# EAGLE library part IMS-T805A (library Transputers)
T805 transputer style-A INMOS 32-bit Transputer with four communication links. M = Military version to MIL-STD-883. Source: The Transputer Databook 1989 and 1992 INMOS/SGS-Thomson Arto Kyyhkynen, artoky@dlc.fi
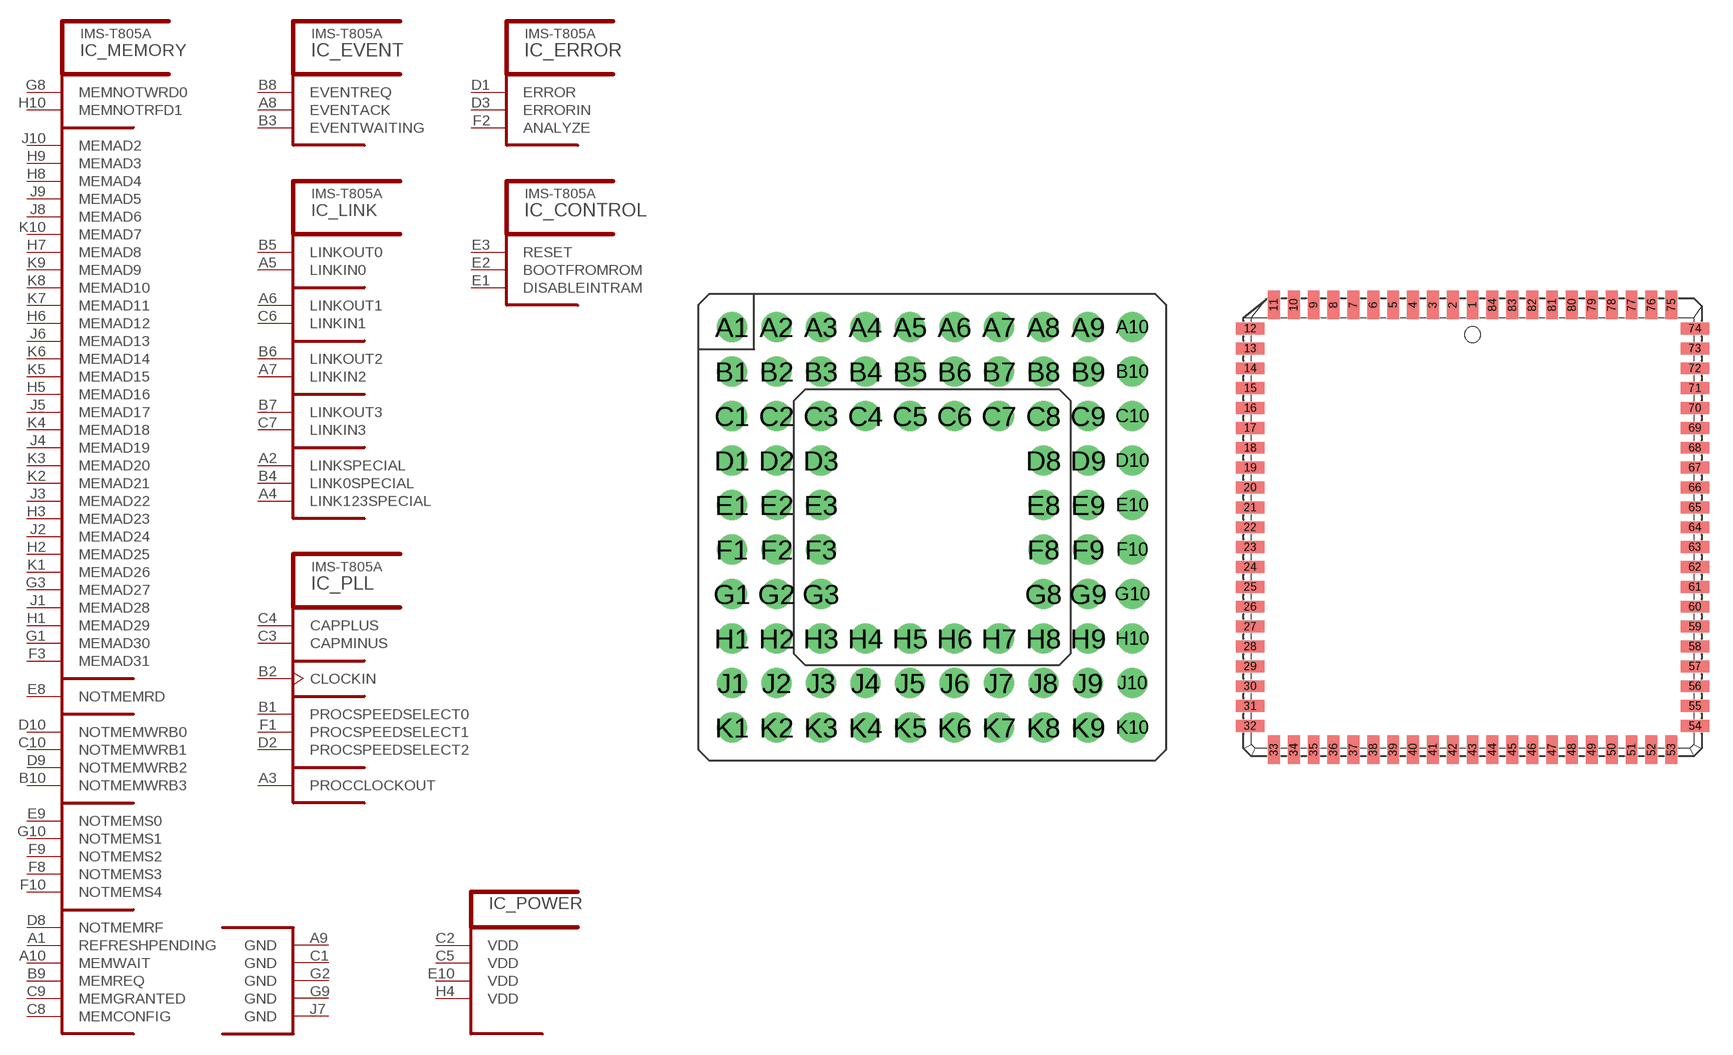
[diagram p0: symbol with the pads of PGA84; footprints PGA84, PLCC84]

Designator prefix IC; gates _CONTROL=T8CONTROL _ERROR=T8ERROR _EVENT=T8EVENT _LINK=T8LINK _MEMORY=T8MEM _PLL=T8PLL _POWER=T8SUP

## IMS-T805AM17G, IMS-T805AM20G, IMS-T805AS17G, IMS-T805AS20G, IMS-T805AS25G, IMS-T805AS30G  [PGA84]
A1  _MEMORY:REFRESHPENDING  out
A2  _LINK:LINKSPECIAL  in
A3  _PLL:PROCCLOCKOUT  out
A4  _LINK:LINK123SPECIAL  in
A5  _LINK:LINKIN0  in
A6  _LINK:LINKOUT1  out
A7  _LINK:LINKIN2  in
A8  _EVENT:EVENTACK  out
A9  _POWER:GND  pwr
A10  _MEMORY:MEMWAIT  in
B1  _PLL:PROCSPEEDSELECT0  in
B2  _PLL:CLOCKIN  in
B3  _EVENT:EVENTWAITING  out
B4  _LINK:LINK0SPECIAL  in
B5  _LINK:LINKOUT0  out
B6  _LINK:LINKOUT2  out
B7  _LINK:LINKOUT3  out
B8  _EVENT:EVENTREQ  in
B9  _MEMORY:MEMREQ  in
B10  _MEMORY:NOTMEMWRB3  out
C1  _POWER:GND  pwr
C2  _POWER:VDD  pwr
C3  _PLL:CAPMINUS  pas
C4  _PLL:CAPPLUS  pas
C5  _POWER:VDD  pwr
C6  _LINK:LINKIN1  in
C7  _LINK:LINKIN3  in
C8  _MEMORY:MEMCONFIG  in
C9  _MEMORY:MEMGRANTED  out
C10  _MEMORY:NOTMEMWRB1  out
D1  _ERROR:ERROR  out
D2  _PLL:PROCSPEEDSELECT2  in
D3  _ERROR:ERRORIN  in
D8  _MEMORY:NOTMEMRF  out
D9  _MEMORY:NOTMEMWRB2  out
D10  _MEMORY:NOTMEMWRB0  out
E1  _CONTROL:DISABLEINTRAM  in
E2  _CONTROL:BOOTFROMROM  in
E3  _CONTROL:RESET  in
E8  _MEMORY:NOTMEMRD  out
E9  _MEMORY:NOTMEMS0  out
E10  _POWER:VDD  pwr
F1  _PLL:PROCSPEEDSELECT1  in
F2  _ERROR:ANALYZE  in
F3  _MEMORY:MEMAD31
F8  _MEMORY:NOTMEMS3  out
F9  _MEMORY:NOTMEMS2  out
F10  _MEMORY:NOTMEMS4  out
G1  _MEMORY:MEMAD30
G2  _POWER:GND  pwr
G3  _MEMORY:MEMAD27
G8  _MEMORY:MEMNOTWRD0
G9  _POWER:GND  pwr
G10  _MEMORY:NOTMEMS1  out
H1  _MEMORY:MEMAD29
H2  _MEMORY:MEMAD25
H3  _MEMORY:MEMAD23
H4  _POWER:VDD  pwr
H5  _MEMORY:MEMAD16
H6  _MEMORY:MEMAD12
H7  _MEMORY:MEMAD8
H8  _MEMORY:MEMAD4
H9  _MEMORY:MEMAD3
H10  _MEMORY:MEMNOTRFD1
J1  _MEMORY:MEMAD28
J2  _MEMORY:MEMAD24
J3  _MEMORY:MEMAD22
J4  _MEMORY:MEMAD19
J5  _MEMORY:MEMAD17
J6  _MEMORY:MEMAD13
J7  _POWER:GND  pwr
J8  _MEMORY:MEMAD6
J9  _MEMORY:MEMAD5
J10  _MEMORY:MEMAD2
K1  _MEMORY:MEMAD26
K2  _MEMORY:MEMAD21
K3  _MEMORY:MEMAD20
K4  _MEMORY:MEMAD18
K5  _MEMORY:MEMAD15
K6  _MEMORY:MEMAD14
K7  _MEMORY:MEMAD11
K8  _MEMORY:MEMAD10
K9  _MEMORY:MEMAD9
K10  _MEMORY:MEMAD7

## IMS-T805AS17J, IMS-T805AS20J, IMS-T805AS25J  [PLCC84]
1  _LINK:LINKIN0  in
2  _LINK:LINKOUT0  out
3  _POWER:VDD  pwr
4  _LINK:LINK123SPECIAL  in
5  _PLL:PROCCLOCKOUT  out
6  _LINK:LINK0SPECIAL  in
7  _LINK:LINKSPECIAL  in
8  _PLL:CAPPLUS  pas
9  _MEMORY:REFRESHPENDING  out
10  _EVENT:EVENTWAITING  out
11  _PLL:CLOCKIN  in
12  _PLL:CAPMINUS  pas
13  _POWER:VDD  pwr
14  _PLL:PROCSPEEDSELECT0  in
15  _POWER:GND  pwr
16  _ERROR:ERRORIN  in
17  _PLL:PROCSPEEDSELECT2  in
18  _ERROR:ERROR  out
19  _CONTROL:BOOTFROMROM  in
20  _CONTROL:RESET  in
21  _CONTROL:DISABLEINTRAM  in
22  _PLL:PROCSPEEDSELECT1  in
23  _ERROR:ANALYZE  in
24  _MEMORY:MEMAD31
25  _MEMORY:MEMAD30
26  _MEMORY:MEMAD29
27  _POWER:GND  pwr
28  _MEMORY:MEMAD28
29  _MEMORY:MEMAD27
30  _MEMORY:MEMAD26
31  _MEMORY:MEMAD25
32  _MEMORY:MEMAD24
33  _MEMORY:MEMAD23
34  _MEMORY:MEMAD22
35  _MEMORY:MEMAD21
36  _MEMORY:MEMAD20
37  _POWER:VDD  pwr
38  _MEMORY:MEMAD19
39  _MEMORY:MEMAD18
40  _MEMORY:MEMAD17
41  _MEMORY:MEMAD16
42  _MEMORY:MEMAD15
43  _MEMORY:MEMAD14
44  _MEMORY:MEMAD13
45  _MEMORY:MEMAD12
46  _MEMORY:MEMAD11
47  _MEMORY:MEMAD10
48  _POWER:GND  pwr
49  _MEMORY:MEMAD9
50  _MEMORY:MEMAD8
51  _MEMORY:MEMAD7
52  _MEMORY:MEMAD6
53  _MEMORY:MEMAD5
54  _MEMORY:MEMAD4
55  _MEMORY:MEMAD3
56  _MEMORY:MEMAD2
57  _MEMORY:MEMNOTRFD1
58  _MEMORY:MEMNOTWRD0
59  _POWER:GND  pwr
60  _MEMORY:NOTMEMS1  out
61  _MEMORY:NOTMEMS2  out
62  _MEMORY:NOTMEMS3  out
63  _MEMORY:NOTMEMS4  out
64  _POWER:VDD  pwr
65  _MEMORY:NOTMEMS0  out
66  _MEMORY:NOTMEMRD  out
67  _MEMORY:NOTMEMWRB0  out
68  _MEMORY:NOTMEMWRB1  out
69  _MEMORY:NOTMEMWRB2  out
70  _MEMORY:NOTMEMWRB3  out
71  _MEMORY:NOTMEMRF  out
72  _MEMORY:MEMWAIT  in
73  _MEMORY:MEMGRANTED  out
74  _MEMORY:MEMREQ  in
75  _MEMORY:MEMCONFIG  in
76  _EVENT:EVENTREQ  in
77  _POWER:GND  pwr
78  _EVENT:EVENTACK  out
79  _LINK:LINKIN3  in
80  _LINK:LINKOUT3  out
81  _LINK:LINKIN2  in
82  _LINK:LINKOUT2  out
83  _LINK:LINKIN1  in
84  _LINK:LINKOUT1  out

## IMS-T805AM17Q, IMS-T805AM20Q  [CLCC84]
1  _PLL:PROCSPEEDSELECT1  in
2  _ERROR:ANALYZE  in
3  _MEMORY:MEMAD31
4  _MEMORY:MEMAD30
5  _MEMORY:MEMAD29
6  _POWER:GND  pwr
7  _MEMORY:MEMAD28
8  _MEMORY:MEMAD27
9  _MEMORY:MEMAD26
10  _MEMORY:MEMAD25
11  _MEMORY:MEMAD24
12  _MEMORY:MEMAD23
13  _MEMORY:MEMAD22
14  _MEMORY:MEMAD21
15  _MEMORY:MEMAD20
16  _POWER:VDD  pwr
17  _MEMORY:MEMAD19
18  _MEMORY:MEMAD18
19  _MEMORY:MEMAD17
20  _MEMORY:MEMAD16
21  _MEMORY:MEMAD15
22  _MEMORY:MEMAD14
23  _MEMORY:MEMAD13
24  _MEMORY:MEMAD12
25  _MEMORY:MEMAD11
26  _MEMORY:MEMAD10
27  _POWER:GND  pwr
28  _MEMORY:MEMAD9
29  _MEMORY:MEMAD8
30  _MEMORY:MEMAD7
31  _MEMORY:MEMAD6
32  _MEMORY:MEMAD5
33  _MEMORY:MEMAD4
34  _MEMORY:MEMAD3
35  _MEMORY:MEMAD2
36  _MEMORY:MEMNOTRFD1
37  _MEMORY:MEMNOTWRD0
38  _POWER:GND  pwr
39  _MEMORY:NOTMEMS1  out
40  _MEMORY:NOTMEMS2  out
41  _MEMORY:NOTMEMS3  out
42  _MEMORY:NOTMEMS4  out
43  _POWER:VDD  pwr
44  _MEMORY:NOTMEMS0  out
45  _MEMORY:NOTMEMRD  out
46  _MEMORY:NOTMEMWRB0  out
47  _MEMORY:NOTMEMWRB1  out
48  _MEMORY:NOTMEMWRB2  out
49  _MEMORY:NOTMEMWRB3  out
50  _MEMORY:NOTMEMRF  out
51  _MEMORY:MEMWAIT  in
52  _MEMORY:MEMGRANTED  out
53  _MEMORY:MEMREQ  in
54  _MEMORY:MEMCONFIG  in
55  _EVENT:EVENTREQ  in
56  _POWER:GND  pwr
57  _EVENT:EVENTACK  out
58  _LINK:LINKIN3  in
59  _LINK:LINKOUT3  out
60  _LINK:LINKIN2  in
61  _LINK:LINKOUT2  out
62  _LINK:LINKIN1  in
63  _LINK:LINKOUT1  out
64  _LINK:LINKIN0  in
65  _LINK:LINKOUT0  out
66  _POWER:VDD  pwr
67  _LINK:LINK123SPECIAL  in
68  _PLL:PROCCLOCKOUT  out
69  _LINK:LINK0SPECIAL  in
70  _LINK:LINKSPECIAL  in
71  _PLL:CAPPLUS  pas
72  _MEMORY:REFRESHPENDING  out
73  _EVENT:EVENTWAITING  out
74  _PLL:CLOCKIN  in
75  _PLL:CAPMINUS  pas
76  _POWER:VDD  pwr
77  _PLL:PROCSPEEDSELECT0  in
78  _POWER:GND  pwr
79  _ERROR:ERRORIN  in
80  _PLL:PROCSPEEDSELECT2  in
81  _ERROR:ERROR  out
82  _CONTROL:BOOTFROMROM  in
83  _CONTROL:RESET  in
84  _CONTROL:DISABLEINTRAM  in

## Footprint PGA84 (pad centres in mm)
Ceramic Pin Grid Array INMOS
drill 1.143 pad 1.676 round: A1 -11.43,11.43; A2 -8.89,11.43; A3 -6.35,11.43; A4 -3.81,11.43; A5 -1.27,11.43; A6 1.27,11.43; A7 3.81,11.43; A8 6.35,11.43; A9 8.89,11.43; A10 11.43,11.43; B1 -11.43,8.89; B2 -8.89,8.89; B3 -6.35,8.89; B4 -3.81,8.89; B5 -1.27,8.89; B6 1.27,8.89; B7 3.81,8.89; B8 6.35,8.89; B9 8.89,8.89; B10 11.43,8.89; C1 -11.43,6.35; C2 -8.89,6.35; C3 -6.35,6.35; C4 -3.81,6.35; C5 -1.27,6.35; C6 1.27,6.35; C7 3.81,6.35; C8 6.35,6.35; C9 8.89,6.35; C10 11.43,6.35; D1 -11.43,3.81; D2 -8.89,3.81; D3 -6.35,3.81; D8 6.35,3.81; D9 8.89,3.81; D10 11.43,3.81; E1 -11.43,1.27; E2 -8.89,1.27; E3 -6.35,1.27; E8 6.35,1.27; E9 8.89,1.27; E10 11.43,1.27; F1 -11.43,-1.27; F2 -8.89,-1.27; F3 -6.35,-1.27; F8 6.35,-1.27; F9 8.89,-1.27; F10 11.43,-1.27; G1 -11.43,-3.81; G2 -8.89,-3.81; G3 -6.35,-3.81; G8 6.35,-3.81; G9 8.89,-3.81; G10 11.43,-3.81; H1 -11.43,-6.35; H2 -8.89,-6.35; H3 -6.35,-6.35; H4 -3.81,-6.35; H5 -1.27,-6.35; H6 1.27,-6.35; H7 3.81,-6.35; H8 6.35,-6.35; H9 8.89,-6.35; H10 11.43,-6.35; J1 -11.43,-8.89; J2 -8.89,-8.89; J3 -6.35,-8.89; J4 -3.81,-8.89; J5 -1.27,-8.89; J6 1.27,-8.89; J7 3.81,-8.89; J8 6.35,-8.89; J9 8.89,-8.89; J10 11.43,-8.89; K1 -11.43,-11.43; K2 -8.89,-11.43; K3 -6.35,-11.43; K4 -3.81,-11.43; K5 -1.27,-11.43; K6 1.27,-11.43; K7 3.81,-11.43; K8 6.35,-11.43; K9 8.89,-11.43; K10 11.43,-11.43

## Footprint PLCC84 (pad centres in mm)
Plastic Leaded Chip Carrier J-bend INMOS
smd 0.76 x 1.8: 1 0,14.21; 2 -1.27,14.21; 3 -2.54,14.21; 4 -3.81,14.21; 5 -5.08,14.21; 6 -6.35,14.21; 7 -7.62,14.21; 8 -8.89,14.21; 9 -10.16,14.21; 10 -11.43,14.21; 11 -12.7,14.21; 33 -12.7,-14.21; 34 -11.43,-14.21; 35 -10.16,-14.21; 36 -8.89,-14.21; 37 -7.62,-14.21; 38 -6.35,-14.21; 39 -5.08,-14.21; 40 -3.81,-14.21; 41 -2.54,-14.21; 42 -1.27,-14.21; 43 0,-14.21; 44 1.27,-14.21; 45 2.54,-14.21; 46 3.81,-14.21; 47 5.08,-14.21; 48 6.35,-14.21; 49 7.62,-14.21; 50 8.89,-14.21; 51 10.16,-14.21; 52 11.43,-14.21; 53 12.7,-14.21; 75 12.7,14.21; 76 11.43,14.21; 77 10.16,14.21; 78 8.89,14.21; 79 7.62,14.21; 80 6.35,14.21; 81 5.08,14.21; 82 3.81,14.21; 83 2.54,14.21; 84 1.27,14.21
smd 1.8 x 0.76: 12 -14.21,12.7; 13 -14.21,11.43; 14 -14.21,10.16; 15 -14.21,8.89; 16 -14.21,7.62; 17 -14.21,6.35; 18 -14.21,5.08; 19 -14.21,3.81; 20 -14.21,2.54; 21 -14.21,1.27; 22 -14.21,0; 23 -14.21,-1.27; 24 -14.21,-2.54; 25 -14.21,-3.81; 26 -14.21,-5.08; 27 -14.21,-6.35; 28 -14.21,-7.62; 29 -14.21,-8.89; 30 -14.21,-10.16; 31 -14.21,-11.43; 32 -14.21,-12.7; 54 14.21,-12.7; 55 14.21,-11.43; 56 14.21,-10.16; 57 14.21,-8.89; 58 14.21,-7.62; 59 14.21,-6.35; 60 14.21,-5.08; 61 14.21,-3.81; 62 14.21,-2.54; 63 14.21,-1.27; 64 14.21,0; 65 14.21,1.27; 66 14.21,2.54; 67 14.21,3.81; 68 14.21,5.08; 69 14.21,6.35; 70 14.21,7.62; 71 14.21,8.89; 72 14.21,10.16; 73 14.21,11.43; 74 14.21,12.7

## Footprint CLCC84 (pad centres in mm)
Ceramic Quad Cerpack
smd 0.76 x 1.8: 1 0,14.845; 2 -1.27,14.845; 3 -2.54,14.845; 4 -3.81,14.845; 5 -5.08,14.845; 6 -6.35,14.845; 7 -7.62,14.845; 8 -8.89,14.845; 9 -10.16,14.845; 10 -11.43,14.845; 11 -12.7,14.845; 33 -12.7,-14.845; 34 -11.43,-14.845; 35 -10.16,-14.845; 36 -8.89,-14.845; 37 -7.62,-14.845; 38 -6.35,-14.845; 39 -5.08,-14.845; 40 -3.81,-14.845; 41 -2.54,-14.845; 42 -1.27,-14.845; 43 0,-14.845; 44 1.27,-14.845; 45 2.54,-14.845; 46 3.81,-14.845; 47 5.08,-14.845; 48 6.35,-14.845; 49 7.62,-14.845; 50 8.89,-14.845; 51 10.16,-14.845; 52 11.43,-14.845; 53 12.7,-14.845; 75 12.7,14.845; 76 11.43,14.845; 77 10.16,14.845; 78 8.89,14.845; 79 7.62,14.845; 80 6.35,14.845; 81 5.08,14.845; 82 3.81,14.845; 83 2.54,14.845; 84 1.27,14.845
smd 1.8 x 0.76: 12 -14.845,12.7; 13 -14.845,11.43; 14 -14.845,10.16; 15 -14.845,8.89; 16 -14.845,7.62; 17 -14.845,6.35; 18 -14.845,5.08; 19 -14.845,3.81; 20 -14.845,2.54; 21 -14.845,1.27; 22 -14.845,0; 23 -14.845,-1.27; 24 -14.845,-2.54; 25 -14.845,-3.81; 26 -14.845,-5.08; 27 -14.845,-6.35; 28 -14.845,-7.62; 29 -14.845,-8.89; 30 -14.845,-10.16; 31 -14.845,-11.43; 32 -14.845,-12.7; 54 14.845,-12.7; 55 14.845,-11.43; 56 14.845,-10.16; 57 14.845,-8.89; 58 14.845,-7.62; 59 14.845,-6.35; 60 14.845,-5.08; 61 14.845,-3.81; 62 14.845,-2.54; 63 14.845,-1.27; 64 14.845,0; 65 14.845,1.27; 66 14.845,2.54; 67 14.845,3.81; 68 14.845,5.08; 69 14.845,6.35; 70 14.845,7.62; 71 14.845,8.89; 72 14.845,10.16; 73 14.845,11.43; 74 14.845,12.7